# Altium footprint library PRO-OB-440.PcbLib: 2 footprints
Each footprint in its own frame and in the unit in brackets; x right, y up, seen from the top. Pads: shape width x height; smd on the part's side, far side on the other; paste and mask are expansions set on the pad; w line width, h text height; cw(c..) or ccw(c..) is an arc to the next point about the centre after c.
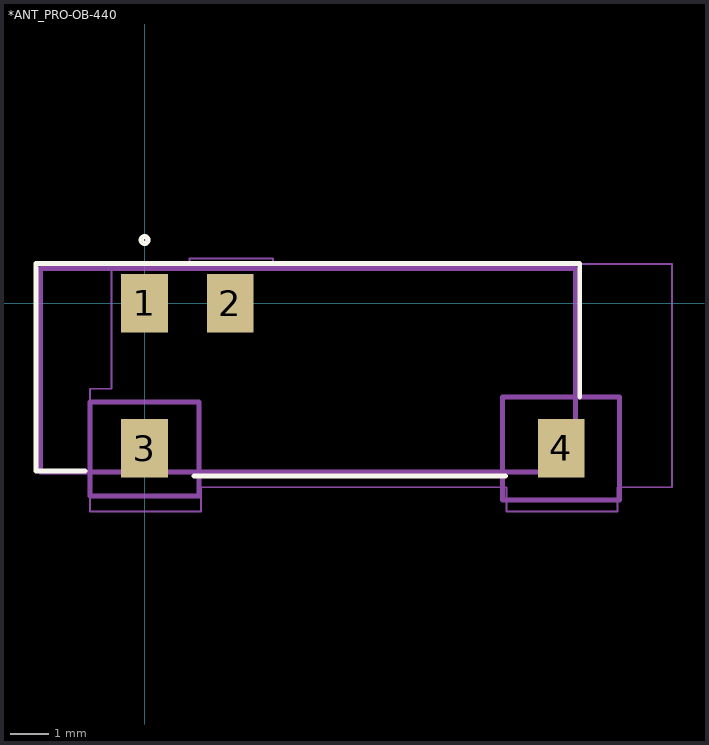
[diagram p0: the footprints below, top view; thin cyan lines are the x and y axes]

## *ANT_PRO-OB-440 [mm]
pads (4):
  rect 1.2x1.5 smd: 1(0,0) 2(2.2,0) 3(0,-3.73) 4(10.7,-3.73)
Top Overlay:
  circle w0.127: c0,1.62 r0.087
  lines w0.127: -1.524,-4.318 -2.794,-4.318 -2.794,1.016 11.176,1.016 11.176,-2.413 ; 1.27,-4.445 9.271,-4.445
Mechanical 13:
  circle w0.127: c0,1.62 r0.084
  lines w0.127: -2.678,-4.343 11.072,-4.343 ; -2.678,-4.343 -2.678,0.887 ; -2.678,-4.343 11.072,-4.343 ; -2.678,-4.343 -2.678,0.887 ; -2.678,0.887 11.072,0.887 ; -2.678,0.887 11.072,0.887 ; 11.072,-4.343 11.072,0.887 ; 11.072,-4.343 11.072,0.887 ; -1.397,-4.953 1.397,-4.953 1.397,-2.54 -1.397,-2.54 -1.397,-4.318 -1.397,-4.953 ; 9.187,-5.06 12.192,-5.06 12.192,-2.413 9.187,-2.413 9.187,-4.275 9.187,-5.06
Mechanical 15:
  lines w0.05: -1.4,-5.35 -1.4,-2.2 -0.85,-2.2 -0.85,1 1.15,1 1.15,1.15 3.3,1.15 3.3,1 13.55,1 13.55,-4.73 12.15,-4.73 12.15,-5.35 9.3,-5.35 9.3,-4.73 1.45,-4.73 1.45,-5.35 -1.4,-5.35
3D body "PRO-OB-440.step": height 3.56, standoff 0.03, extent -2.684,-4.214 11.066,1.016

## PCBComponent_1 [mm]